# EAGLE library part AS-ITM-00021 (library tinycircuits)
CONN RCPT 5POS MICRO USB R/A
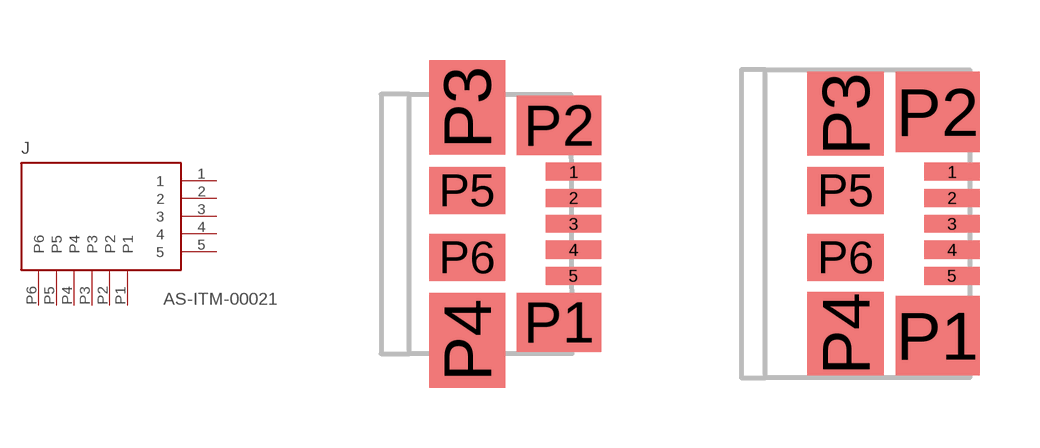
[diagram p6: symbol with the pads of MICRO_USB; footprints MICRO_USB, MICRO_USB_ALT]

Designator prefix J

## AS-ITM-00021 (PARTNO: AS-ITM-00021; PNPROTATION: 90; VALUE: 47346-0001)  [MICRO_USB]
1  1
2  2
3  3
4  4
5  5
P1  P1
P2  P2
P3  P3
P4  P4
P5  P5
P6  P6

## AS-ITM-00021A (PARTNO: AS-ITM-00021; PNPROTATION: 90; VALUE: 10118192-0001LF)  [MICRO_USB_ALT]
Pads as for MICRO_USB

## Footprint MICRO_USB (pad centres in mm)
Molex Micro-USB
smd 1.38 x 0.45: 1 2.66,1.3; 2 2.66,0.65; 3 2.66,0; 4 2.66,-0.65; 5 2.66,-1.3
smd 2.1 x 1.475: P1 2.3,-2.462; P2 2.3,2.462
smd 1.9 x 2.375: P3 0,2.913; P4 0,-2.913
smd 1.9 x 1.175: P5 0,0.838; P6 0,-0.838

## Footprint MICRO_USB_ALT (pad centres in mm)
smd 1.38 x 0.45: 1 2.66,1.3; 2 2.66,0.65; 3 2.66,0; 4 2.66,-0.65; 5 2.66,-1.3
smd 2.1 x 2: P1 2.3,-2.8; P2 2.3,2.8
smd 1.9 x 2.1: P3 0,2.75; P4 0,-2.75
smd 1.9 x 1.175: P5 0,0.838; P6 0,-0.838